# Altium footprint library STMicroelectronics_LSM9DS0TR_0.PcbLib: 22 footprints (part 1 of 2)
Each footprint in its own frame and in the unit in brackets; x right, y up, seen from the top. Pads: shape width x height; smd on the part's side, far side on the other; paste and mask are expansions set on the pad; w line width, h text height; cw(c..) or ccw(c..) is an arc to the next point about the centre after c.
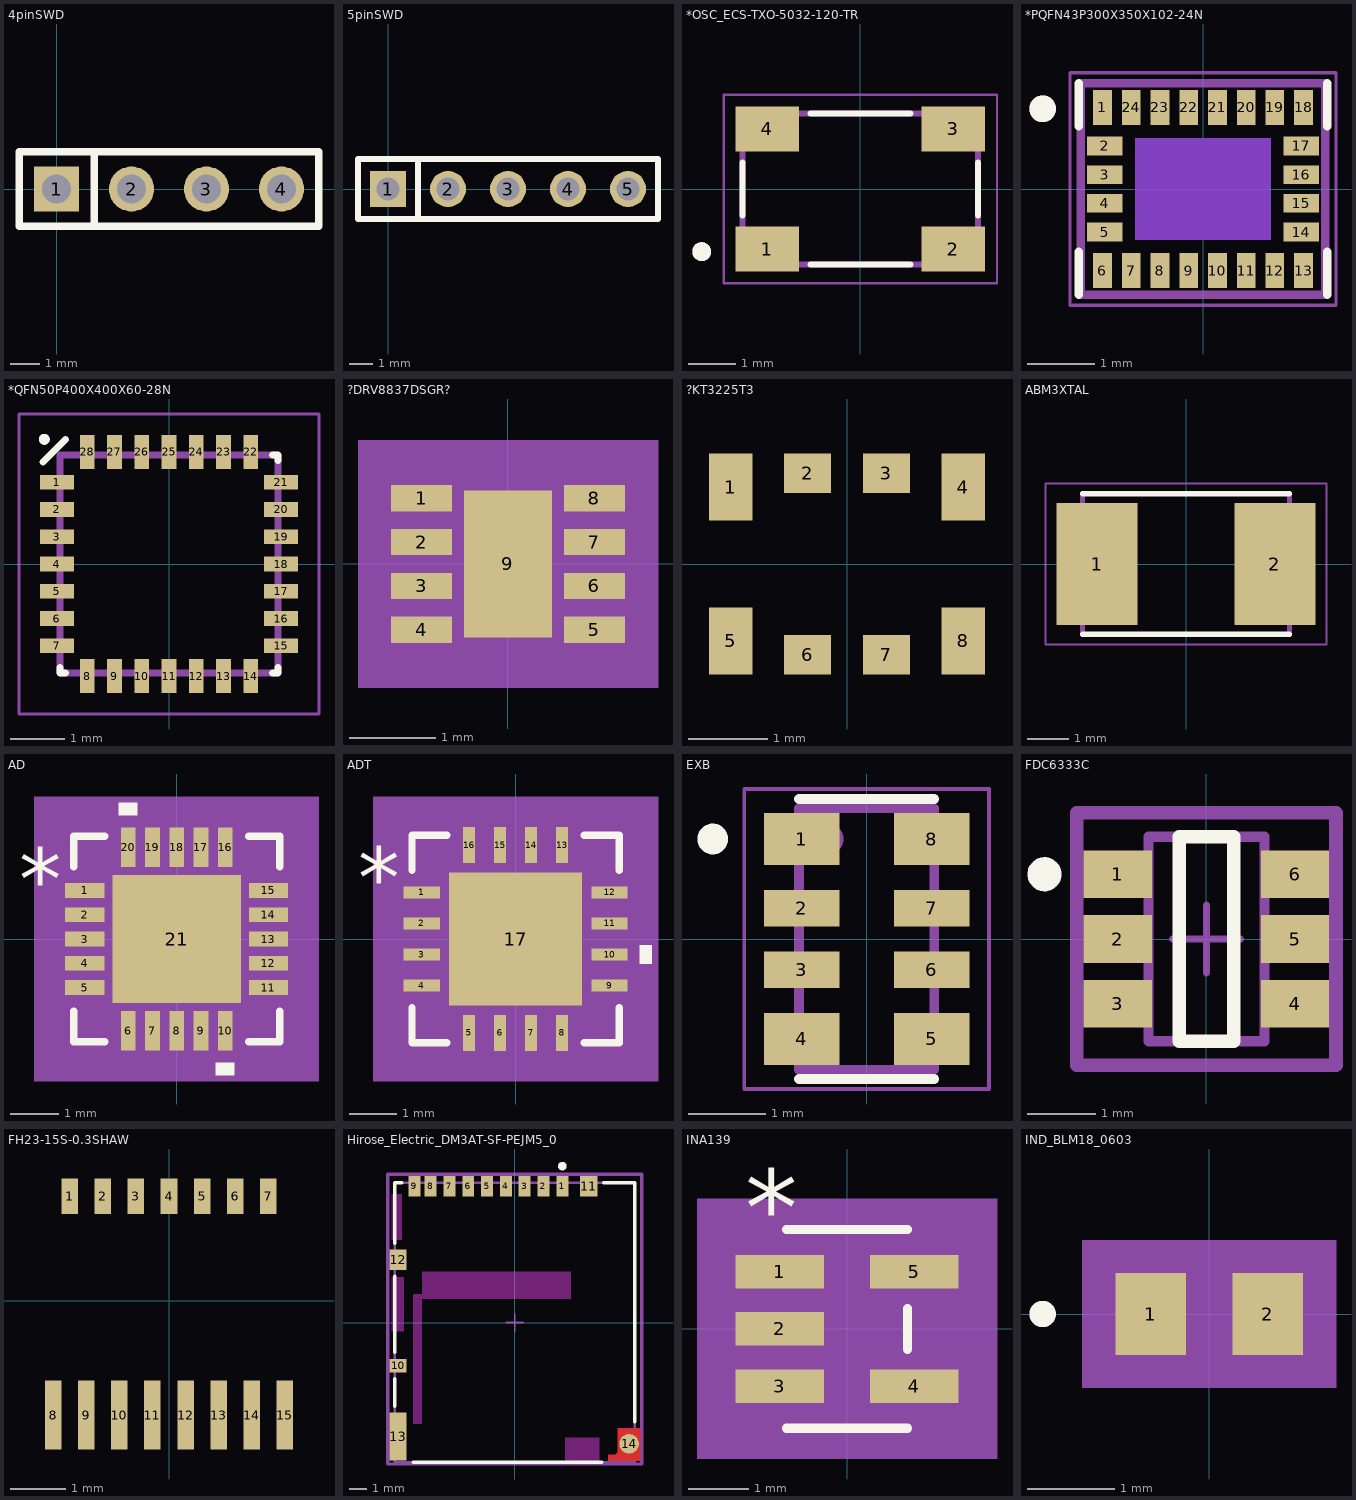
[diagram p0: the footprints below, top view; thin cyan lines are the x and y axes]

## 4pinSWD [mil]
pads (4):
  rect 60x60 hole 38.19: 1(0,0)
  round 60 hole 38.19: 2(100,0) 3(200,0) 4(300,0)
Top Overlay:
  lines w10: 50,-50 50,50 ; -50,-50 350,-50 350,50 -50,50 -50,-50

## 5pinSWD [mil]
pads (5):
  rect 60x60 hole 38.19: 1(0,0)
  round 60 hole 38.19: 2(100,0) 3(200,0) 4(300,0) 5(400,0)
Top Overlay:
  lines w10: 50,-50 50,50 ; -50,-50 450,-50 450,50 -50,50 -50,-50

## *OSC_ECS-TXO-5032-120-TR [mm]
pads (4):
  rect 1.35x0.95 smd: 1(-1.975,-1.275) 2(1.975,-1.275) 3(1.975,1.275) 4(-1.975,1.275)
Top Overlay:
  circle w0.2: c-3.37,-1.33 r0.1
  lines w0.127: -2.5,-0.565 -2.5,0.565 ; -1.065,-1.6 1.065,-1.6 ; -1.065,1.6 1.065,1.6 ; 2.5,-0.565 2.5,0.565
Mechanical 4:
  circle w0.2: c-3.37,-1.33 r0.1
  circle w0.2: c-3.37,-1.33 r0.1
  lines w0.127: -2.5,-1.6 -2.5,1.6 ; -2.5,-1.6 2.5,-1.6 ; -2.5,-1.6 -2.5,1.6 ; -2.5,-1.6 2.5,-1.6 ; -2.5,1.6 2.5,1.6 ; -2.5,1.6 2.5,1.6 ; 2.5,-1.6 2.5,1.6 ; 2.5,-1.6 2.5,1.6
Mechanical 16:
  lines w0.05: -2.9,-2 2.9,-2 2.9,2 -2.9,2 -2.9,-2

## *PQFN43P300X350X102-24N [mm]
pads (24):
  rect 0.28x0.53 smd: 1(-1.505,1.22) 6(-1.505,-1.22) 7(-1.075,-1.22) 8(-0.645,-1.22) 9(-0.215,-1.22) 10(0.215,-1.22) 11(0.645,-1.22) 12(1.075,-1.22) 13(1.505,-1.22) 18(1.505,1.22) 19(1.075,1.22) 20(0.645,1.22) 21(0.215,1.22) 22(-0.215,1.22) 23(-0.645,1.22) 24(-1.075,1.22)
  rect 0.53x0.28 smd: 2(-1.47,0.645) 3(-1.47,0.215) 4(-1.47,-0.215) 5(-1.47,-0.645) 14(1.47,-0.645) 15(1.47,-0.215) 16(1.47,0.215) 17(1.47,0.645)
Top Layer keep-out:
  rectangle: -0.645,-0.508 0.645,0.508
Bottom Layer keep-out:
  rectangle: -1.016,-0.762 1.016,0.762
Top Overlay:
  circle w0.2: c-2.4,1.2 r0.1
  lines w0.127: -1.86,-1.58 -1.86,-0.94 ; -1.86,0.94 -1.86,1.58 ; 1.86,-1.58 1.86,-0.94 ; 1.86,0.94 1.86,1.58
Mechanical 4:
  circle w0.2: c-2.4,1.2 r0.1
  circle w0.2: c-2.4,1.2 r0.1
  lines w0.127: -1.83,-1.58 1.83,-1.58 ; -1.83,-1.58 -1.83,1.58 ; -1.83,-1.58 1.83,-1.58 ; -1.83,-1.58 -1.83,1.58 ; -1.83,1.58 1.83,1.58 ; -1.83,1.58 1.83,1.58 ; 1.83,-1.58 1.83,1.58 ; 1.83,-1.58 1.83,1.58
Mechanical 16:
  lines w0.05: -1.99,-1.74 1.99,-1.74 1.99,1.74 -1.99,1.74 -1.99,-1.74

## *QFN50P400X400X60-28N [mm]
pads (28):
  rect 0.62x0.27 smd: 1(-2.055,1.5) 2(-2.055,1) 3(-2.055,0.5) 4(-2.055,0) 5(-2.055,-0.5) 6(-2.055,-1) 7(-2.055,-1.5) 15(2.055,-1.5) 16(2.055,-1) 17(2.055,-0.5) 18(2.055,0) 19(2.055,0.5) 20(2.055,1) 21(2.055,1.5)
  rect 0.27x0.62 smd: 8(-1.5,-2.055) 9(-1,-2.055) 10(-0.5,-2.055) 11(0,-2.055) 12(0.5,-2.055) 13(1,-2.055) 14(1.5,-2.055) 22(1.5,2.055) 23(1,2.055) 24(0.5,2.055) 25(0,2.055) 26(-0.5,2.055) 27(-1,2.055) 28(-1.5,2.055)
Top Overlay:
  circle w0.1: c-2.286,2.286 r0.05
  lines w0.127: -2.313,1.873 -1.9,2.286 ; -2,-1.9 -2,-2 -1.9,-2 ; 1.9,-2 2,-2 2,-1.9 ; 1.9,2 2,2 2,1.9
Mechanical 4:
  lines w0.127: -2,-2 -2,2 ; -2,-2 2,-2 ; -2,-2 -2,2 ; -2,-2 2,-2 ; -2,2 2,2 ; -2,2 2,2 ; 2,-2 2,2 ; 2,-2 2,2
Mechanical 16:
  lines w0.05: -2.75,-2.75 -2.75,2.75 2.75,2.75 2.75,-2.75 -2.75,-2.75

## ?DRV8837DSGR? [mil]
pads (9):
  rect 28x12 smd: 1(-39.5,30) 2(-39.5,10) 3(-39.5,-10) 4(-39.5,-30) 5(39.5,-30) 6(39.5,-10) 7(39.5,10) 8(39.5,30)
  rect 40x67 smd paste-33 mask+0: 9(0,0)
Top Overlay:
  text "." at -75,60 h31.5
Top Paste:
  region: 20,33.5 -20,33.5 -20,-33.5 20,-33.5
Mechanical 5:
  region: 68.5,-56.5 -68.5,-56.5 -68.5,56.5 68.5,56.5
Mechanical 13:
  lines w1: -41.5,-41.5 41.5,-41.5 41.5,41.5 -41.5,41.5 -41.5,-41.5
Mechanical 15:
  region: -51.5,-42 -63.5,-42 -63.5,42 -51.5,42 -51.5,51.5 51.5,51.5 51.5,42 63.5,42 63.5,-42 51.5,-42 51.5,-51.5 -51.5,-51.5
  lines w6: -63.5,-42 -63.5,42 -51.5,42 -51.5,51.5 51.5,51.5 51.5,42 63.5,42 63.5,-42 51.5,-42 51.5,-51.5 -51.5,-51.5 -51.5,-42 -63.5,-42
3D body: height 10, standoff 0, extent 0,0 10,10

## ?KT3225T3 [mm]
pads (8):
  rect 0.55x0.85 smd: 1(-1.475,0.975) 4(1.475,0.975) 5(-1.475,-0.975) 8(1.475,-0.975)
  rect 0.6x0.5 smd: 2(-0.5,1.15) 3(0.5,1.15) 6(-0.5,-1.15) 7(0.5,-1.15)

## ABM3XTAL [mm]
pads (2):
  rect 1.95x2.95 smd: 1(-2.15,0) 2(2.15,0)
Top Overlay:
  lines w0.127: -2.5,-1.7 2.5,-1.7 ; -2.5,1.7 2.5,1.7
Mechanical 4:
  lines w0.127: -2.5,-1.7 -2.5,1.7 -2.5,-1.7 ; 2.5,-1.7 2.5,1.7 2.5,-1.7
Mechanical 16:
  lines w0.05: -3.4,-1.95 3.4,-1.95 3.4,1.95 -3.4,1.95 -3.4,-1.95

## AD [mil]
pads (21):
  rect 32x12 smd: 1(-74.5,39.37) 2(-74.5,19.68) 3(-74.5,0) 4(-74.5,-19.68) 5(-74.5,-39.37) 11(74.5,-39.37) 12(74.5,-19.68) 13(74.5,0) 14(74.5,19.68) 15(74.5,39.37)
  rect 12x32 smd: 6(-39.37,-74.5) 7(-19.68,-74.5) 8(0,-74.5) 9(19.68,-74.5) 10(39.37,-74.5) 16(39.37,74.5) 17(19.68,74.5) 18(0,74.5) 19(-19.68,74.5) 20(-39.37,74.5)
  rect 104x104 smd paste-51.5 mask+0: 21(0,0)
Top Overlay:
  region: 46.87,-100.5 31.87,-100.5 31.87,-110.5 46.87,-110.5
  region: -31.87,100.5 -46.87,100.5 -46.87,110.5 -31.87,110.5
  lines w6: -83.5,-58.47 -83.5,-83.5 -58.47,-83.5 ; -83.5,58.47 -83.5,83.5 -58.47,83.5 ; 58.47,-83.5 83.5,-83.5 83.5,-58.47 ; 58.47,83.5 83.5,83.5 83.5,58.47
  text "*" at -128,24.21 h50
Top Paste:
  region: -3.94,48.06 -48.06,48.06 -48.06,3.94 -3.94,3.94
  region: -3.94,-3.94 -48.06,-3.94 -48.06,-48.06 -3.94,-48.06
  region: 48.06,48.06 3.94,48.06 3.94,3.94 48.06,3.94
  region: 48.06,-3.94 3.94,-3.94 3.94,-48.06 48.06,-48.06
Mechanical 5:
  region: 115.5,-115.5 -115.5,-115.5 -115.5,115.5 115.5,115.5
Mechanical 13:
  lines w1: -78.5,28.5 -28.5,78.5 ; -78.5,-78.5 78.5,-78.5 78.5,78.5 -78.5,78.5 -78.5,-78.5 ; -78.5,-45.37 -78.5,-33.37 -78.5,-45.37 ; -78.5,-25.68 -78.5,-13.69 -78.5,-25.68 ; -78.5,-6 -78.5,6 -78.5,-6 ; -78.5,13.69 -78.5,25.68 -78.5,13.69 ; -78.5,33.37 -78.5,45.37 -78.5,33.37 ; -45.37,-78.5 -33.37,-78.5 -45.37,-78.5 ; -45.37,78.5 -33.37,78.5 -45.37,78.5 ; -25.68,-78.5 -13.69,-78.5 -25.68,-78.5 ; -25.68,78.5 -13.69,78.5 -25.68,78.5 ; -6,-78.5 6,-78.5 -6,-78.5 ; -6,78.5 6,78.5 -6,78.5 ; 13.69,-78.5 25.68,-78.5 13.69,-78.5 ; 13.69,78.5 25.68,78.5 13.69,78.5 ; 33.37,-78.5 45.37,-78.5 33.37,-78.5 ; 33.37,78.5 45.37,78.5 33.37,78.5 ; 78.5,-45.37 78.5,-33.37 78.5,-45.37 ; 78.5,-25.68 78.5,-13.69 78.5,-25.68 ; 78.5,-6 78.5,6 78.5,-6 ; 78.5,13.69 78.5,25.68 78.5,13.69 ; 78.5,33.37 78.5,45.37 78.5,33.37
  text "*" at -71,24.21 h50
Mechanical 15:
  region: -49.21,-88.5 -88.5,-88.5 -88.5,-49.21 -98.5,-49.21 -98.5,49.21 -88.5,49.21 -88.5,88.5 -49.21,88.5 -49.21,98.5 49.21,98.5 49.21,88.5 88.5,88.5 88.5,49.21 98.5,49.21 98.5,-49.21 88.5,-49.21 88.5,-88.5 49.21,-88.5 49.21,-98.5 -49.21,-98.5
  lines w6: -98.5,-49.21 -88.5,-49.21 -88.5,-88.5 -49.21,-88.5 -49.21,-98.5 49.21,-98.5 49.21,-88.5 88.5,-88.5 88.5,-49.21 98.5,-49.21 98.5,49.21 88.5,49.21 88.5,88.5 49.21,88.5 49.21,98.5 -49.21,98.5 -49.21,88.5 -88.5,88.5 -88.5,49.21 -98.5,49.21 -98.5,-49.21
3D body: height 10, standoff 0, extent 0,0 10,10

## ADT [mil]
pads (17):
  rect 30x10 smd paste+0 mask+3.94: 1(-77.5,38.39) 2(-77.5,12.8) 3(-77.5,-12.8) 4(-77.5,-38.39) 9(77.5,-38.39) 10(77.5,-12.8) 11(77.5,12.8) 12(77.5,38.39)
  rect 10x30 smd paste+0 mask+3.94: 5(-38.39,-77.5) 6(-12.8,-77.5) 7(12.8,-77.5) 8(38.39,-77.5) 13(38.39,77.5) 14(12.8,77.5) 15(-12.8,77.5) 16(-38.39,77.5)
  rect 110x110 smd paste-54.5 mask+0: 17(0,0)
Top Overlay:
  region: 102.5,-5.3 112.5,-5.3 112.5,-20.3 102.5,-20.3
  lines w6: -85.5,-56.49 -85.5,-85.5 -56.49,-85.5 ; -85.5,56.49 -85.5,85.5 -56.49,85.5 ; 56.49,-85.5 85.5,-85.5 85.5,-56.49 ; 56.49,85.5 85.5,85.5 85.5,56.49
  text "*" at -130,26.18 h50
Top Paste:
  region: -3.94,51.06 -51.06,51.06 -51.06,3.94 -3.94,3.94
  region: -3.94,-3.94 -51.06,-3.94 -51.06,-51.06 -3.94,-51.06
  region: 51.06,51.06 3.94,51.06 3.94,3.94 51.06,3.94
  region: 51.06,-3.94 3.94,-3.94 3.94,-51.06 51.06,-51.06
Mechanical 5:
  region: 117.5,-117.5 -117.5,-117.5 -117.5,117.5 117.5,117.5
Mechanical 13:
  lines w1: -80.5,30.5 -30.5,80.5 ; -80.5,-80.5 80.5,-80.5 80.5,80.5 -80.5,80.5 -80.5,-80.5 ; -80.5,-45.39 -80.5,-31.39 -80.5,-45.39 ; -80.5,-19.8 -80.5,-5.8 -80.5,-19.8 ; -80.5,5.8 -80.5,19.8 -80.5,5.8 ; -80.5,31.39 -80.5,45.39 -80.5,31.39 ; -45.39,-80.5 -31.39,-80.5 -45.39,-80.5 ; -45.39,80.5 -31.39,80.5 -45.39,80.5 ; -19.8,-80.5 -5.8,-80.5 -19.8,-80.5 ; -19.8,80.5 -5.8,80.5 -19.8,80.5 ; 5.8,-80.5 19.8,-80.5 5.8,-80.5 ; 5.8,80.5 19.8,80.5 5.8,80.5 ; 31.39,-80.5 45.39,-80.5 31.39,-80.5 ; 31.39,80.5 45.39,80.5 31.39,80.5 ; 80.5,-45.39 80.5,-31.39 80.5,-45.39 ; 80.5,-19.8 80.5,-5.8 80.5,-19.8 ; 80.5,5.8 80.5,19.8 80.5,5.8 ; 80.5,31.39 80.5,45.39 80.5,31.39
  text "*" at -75,26.18 h50
Mechanical 15:
  region: -53.39,-90.5 -90.5,-90.5 -90.5,-53.39 -102.5,-53.39 -102.5,53.39 -90.5,53.39 -90.5,90.5 -53.39,90.5 -53.39,102.5 53.39,102.5 53.39,90.5 90.5,90.5 90.5,53.39 102.5,53.39 102.5,-53.39 90.5,-53.39 90.5,-90.5 53.39,-90.5 53.39,-102.5 -53.39,-102.5
  lines w6: -102.5,-53.39 -90.5,-53.39 -90.5,-90.5 -53.39,-90.5 -53.39,-102.5 53.39,-102.5 53.39,-90.5 90.5,-90.5 90.5,-53.39 102.5,-53.39 102.5,53.39 90.5,53.39 90.5,90.5 53.39,90.5 53.39,102.5 -53.39,102.5 -53.39,90.5 -90.5,90.5 -90.5,53.39 -102.5,53.39 -102.5,-53.39
3D body: height 10, standoff 0, extent 0,0 10,10

## EXB [mm]
pads (8):
  rect 0.98x0.68 smd: 1(-0.845,1.3) 4(-0.845,-1.3) 5(0.845,-1.3) 8(0.845,1.3)
  rect 0.98x0.48 smd: 2(-0.845,0.4) 3(-0.845,-0.4) 6(0.845,-0.4) 7(0.845,0.4)
Top Overlay:
  circle w0.2: c-2,1.3 r0.1
  lines w0.127: -0.88,-1.82 0.88,-1.82 ; -0.88,1.82 0.88,1.82
Mechanical 4:
  circle w0.2: c-0.5,1.3 r0.1
  circle w0.2: c-0.5,1.3 r0.1
  lines w0.127: -0.88,-1.7 -0.88,1.7 ; -0.88,-1.7 0.88,-1.7 ; -0.88,-1.7 -0.88,1.7 ; -0.88,-1.7 0.88,-1.7 ; -0.88,1.7 0.88,1.7 ; -0.88,1.7 0.88,1.7 ; 0.88,-1.7 0.88,1.7 ; 0.88,-1.7 0.88,1.7
Mechanical 16:
  lines w0.05: -1.59,-1.95 -1.59,1.95 1.59,1.95 1.59,-1.95 -1.59,-1.95

## FDC6333C [mm]
pads (6):
  rect 1x0.7 smd paste+0 mask+0: 1(-1.3,0.95) 2(-1.3,0) 3(-1.3,-0.95) 4(1.3,-0.95) 5(1.3,0) 6(1.3,0.95)
Top Overlay:
  circle w0.25: c-2.375,0.95 r0.125
  lines w0.2: -0.4,-1.5 -0.4,1.5 0.4,1.5 0.4,-1.5 -0.4,-1.5
Mechanical 10:
  lines w0.2: -1.9,-1.85 -1.9,1.85 1.9,1.85 1.9,-1.85 -1.9,-1.85
  text ".Designator" at 0,0 h1
Mechanical 12:
  lines w0.15: -0.85,-1.5 -0.85,1.5 0.85,1.5 0.85,-1.5 -0.85,-1.5
Mechanical 15:
  lines w0.1: -0.5,0 0.5,0 ; 0,-0.5 0,0.5
  lines w0.2: -1.9,-1.85 -1.9,1.85 1.9,1.85 1.9,-1.85 -1.9,-1.85
3D body "Trans_ON_Semi_FDC6333C_eec.STEP": height 0.25, standoff 0, extent -1.9,-1.85 1.9,1.85

## FH23-15S-0.3SHAW [mm]
pads (15):
  rect 0.3x0.65 smd: 1(-1.8,1.9) 2(-1.2,1.9) 3(-0.6,1.9) 4(0,1.9) 5(0.6,1.9) 6(1.2,1.9) 7(1.8,1.9)
  rect 0.3x1.25 smd: 8(-2.1,-2.075) 9(-1.5,-2.075) 10(-0.9,-2.075) 11(-0.3,-2.075) 12(0.3,-2.075) 13(0.9,-2.075) 14(1.5,-2.075) 15(2.1,-2.075)
3D body "FH23-15S-0.3SHAW.stp": height 1.24, standoff -0.01, extent -3.5,-2.641 3.5,2.159

## Hirose_Electric_DM3AT-SF-PEJM5_0 [mm]
pads (14):
  rect 0.7x1.2 smd paste+0 mask+0: 1(2.775,7.975) 2(1.675,7.975) 3(0.575,7.975) 4(-0.525,7.975) 5(-1.625,7.975) 6(-2.725,7.975) 7(-3.825,7.975) 8(-4.925,7.975) 9(-5.875,7.975)
  rect 1x0.8 smd paste+0 mask+0: 10(-6.825,-2.525)
  rect 1x1.2 smd paste+0 mask+0: 11(4.325,7.975) 12(-6.825,3.675)
  rect 1x2.8 smd paste+0 mask+0: 13(-6.825,-6.675)
  round 1.145 smd paste+0 mask+0: 14(6.689,-7.092)
Top Layer:
  region: 6.025,-6.175 7.325,-6.175 7.325,-8.075 5.475,-8.075 5.475,-7.725 5.875,-7.725 6.025,-7.575
Top Overlay:
  circle w0.25: c2.775,9.15 r0.125
  lines w0.2: -7.025,-4.9 -7.025,-3.3 ; -7.025,-1.75 -7.025,2.7 ; -7.025,4.65 -7.025,8.175 -6.6,8.175 ; -5.95,-8.175 5.1,-8.175 ; 5.2,8.175 7.025,8.175 7.025,-5.8
Keep-Out Layer:
  rectangle: -7.225,4.826 -6.604,7.525
  rectangle: -7.225,-0.525 -6.475,2.667
  rectangle: -5.969,-5.925 -5.425,1.675
  rectangle: -5.425,1.375 3.275,2.975
  rectangle: 2.925,-8.075 4.953,-6.725
Mechanical 10:
  lines w0.2: -7.425,-8.275 7.425,-8.275 7.425,8.675 -7.425,8.675 -7.425,-8.275
  text ".Designator" at 0,0.2 h1
Mechanical 12:
  lines w0.15: -7.025,-8.175 7.025,-8.175 7.025,8.175 -7.025,8.175 -7.025,-8.175
Mechanical 15:
  lines w0.1: -0.5,0 0.5,0 ; 0,-0.5 0,0.5
  lines w0.2: -7.425,-8.275 7.425,-8.275 7.425,8.675 -7.425,8.675 -7.425,-8.275
3D body "Conn_Hirose_Electric_DM3AT-SF-PEJM5_eec.STEP": height 0.25, standoff 0, extent -7.425,-8.275 7.425,8.675

## INA139 [mil]
pads (5):
  rect 58x22 smd: 1(-44,37.4) 2(-44,0) 3(-44,-37.4) 4(44,-37.4) 5(44,37.4)
Top Overlay:
  lines w6: -39.5,-65 39.5,-65 ; -39.5,65 39.5,65 ; 39.5,-13.3 39.5,13.3
  text "*" at -66.5,54.4 h50
Mechanical 5:
  region: 98,-85 -98,-85 -98,85 98,85
Mechanical 13:
  lines w0: -12,60 ccw(c0,60) 12,60
  lines w1: -59,-47.4 -59,-27.4 -34.5,-27.4 -34.5,-47.4 -59,-47.4 ; -59,-10 -59,10 -34.5,10 -34.5,-10 -59,-10 ; -59,27.4 -59,47.4 -34.5,47.4 -34.5,27.4 -59,27.4 ; -34.5,-60 34.5,-60 34.5,60 -34.5,60 -34.5,-60 ; 34.5,-47.4 34.5,-27.4 59,-27.4 59,-47.4 34.5,-47.4 ; 34.5,27.4 34.5,47.4 59,47.4 59,27.4 34.5,27.4
  text "*" at -37,16.4 h50
Mechanical 15:
  region: 44.5,-70 -44.5,-70 -44.5,-52.4 -74,-52.4 -74,52.4 -44.5,52.4 -44.5,70 44.5,70 44.5,52.4 74,52.4 74,-52.4 44.5,-52.4
  lines w6: -74,-52.4 -44.5,-52.4 -44.5,-70 44.5,-70 44.5,-52.4 74,-52.4 74,52.4 44.5,52.4 44.5,70 -44.5,70 -44.5,52.4 -74,52.4 -74,-52.4
3D body: height 10, standoff 0, extent 0,0 10,10

## IND_BLM18_0603 [mil]
pads (2):
  rect 32x37 smd: 1(-26.5,0) 2(26.5,0)
Top Overlay:
  circle w6: c-75.5,0 r3
Mechanical 5:
  region: 57.5,-33.5 -57.5,-33.5 -57.5,33.5 57.5,33.5
Mechanical 13:
  circle w0: c-21.5,0 r3
  lines w1: -34.5,-18.5 -34.5,18.5 ; -34.5,-18.5 34.5,-18.5 ; -34.5,-18.5 -10.5,-18.5 -10.5,18.5 -34.5,18.5 ; -34.5,-18.5 -34.5,18.5 ; -34.5,18.5 34.5,18.5 ; 34.5,-18.5 34.5,18.5 ; 34.5,-18.5 34.5,18.5 ; 34.5,-18.5 10.5,-18.5 10.5,18.5 34.5,18.5
Mechanical 15:
  region: 52.5,-28.5 -52.5,-28.5 -52.5,28.5 52.5,28.5
  lines w6: -52.5,-28.5 52.5,-28.5 52.5,28.5 -52.5,28.5 -52.5,-28.5
3D body: height 10, standoff 0, extent 0,0 10,10